# EAGLE library part GD25Q16CTIGR (library Memory)
IC FLASH 16MBIT SPI/QUAD 8SOP Manufacturer's datasheet <https://www.digikey.in/en/products/detail/gigadevice-semiconductor-hk-limited/GD25Q16CTIGR/9484675?s=N4IgTCBcDaIOIBEwFYCKBGAbAYQCoEk4AlEAXQF8g>
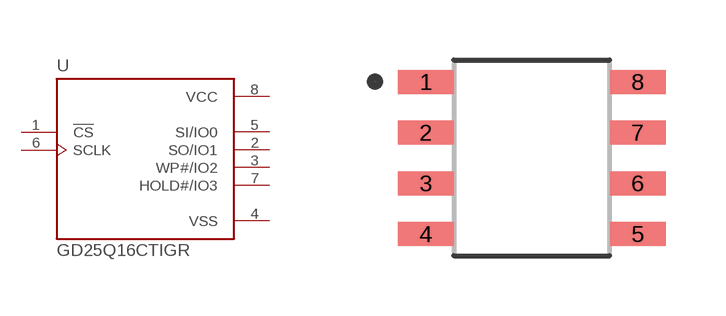
[diagram p3: symbol with the pads of SO8; footprint SO8]

Designator prefix U

## GD25Q16CTIGR (CREATED_BY: PCBLayout.com; DIGIKEY_PARTNO: 1970-1010-2-ND; MANUFACTURER: GigaDevice Semiconductor (HK) Limited; MPN: GD25Q16CTIGR; PACKAGE: SOP-8)  [SO8]
1  !CS  in
2  SO/IO1
3  WP#/IO2
4  VSS  pwr
5  SI/IO0
6  SCLK  in
7  HOLD#/IO3
8  VCC  pwr

## Footprint SO8 (pad centres in mm)
smd 1.4 x 0.6: 1 -2.65,1.905; 2 -2.65,0.635; 3 -2.65,-0.635; 4 -2.65,-1.905; 5 2.65,-1.905; 6 2.65,-0.635; 7 2.65,0.635; 8 2.65,1.905